# Altium integrated library BMP390.IntLib: 1 symbol
Pins are listed as number, name and electrical type; pins without a type are passive.

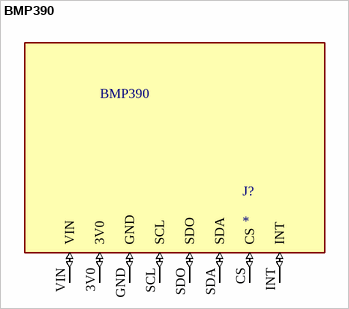
[diagram p0: symbol BMP390]

## BMP390
designator J?
Pressure Sensor 4.35PSI ~ 18.13PSI (30kPa ~ 125kPa) Absolute - - 10-WFLGA; MF: Bosch Sensortec; MP: BMP390; SnapEDA_Link: https://www.snapeda.com/parts/BMP390/Bosch+Sensortec/view-part/?ref=snap; Package: WFLGA-10 Bosch Sensortec; Value: *; Check_prices: https://www.snapeda.com/parts/BMP390/Bosch+Sensortec/view-part/?ref=eda
footprint BMP390
pins: 3V0 (io), CS (io), GND (io), INT (io), SCL (io), SDA (io), SDO (io), VIN (io)